# Altium footprint library PCB - CHOKE - TDK ACM ACM7060-301-2PL-TL01.PCBLIB: 1 footprints
Each footprint in its own frame and in the unit in brackets; x right, y up, seen from the top. Pads: shape width x height; smd on the part's side, far side on the other; paste and mask are expansions set on the pad; w line width, h text height; cw(c..) or ccw(c..) is an arc to the next point about the centre after c.
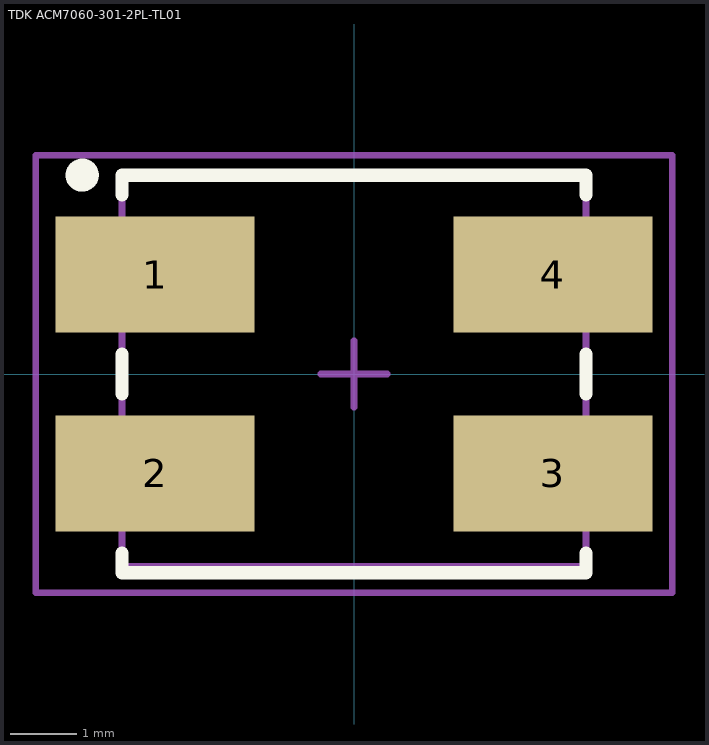
[diagram p0: the footprint, top view; thin cyan lines are the x and y axes]

## TDK ACM7060-301-2PL-TL01 [mm] "Chip Choke, Body 6.0x7.0mm, IPC Medium Density"
height 3.5
pads (4):
  rect 3x1.75 smd: 1(-3,1.5) 2(-3,-1.5) 3(3,-1.5) 4(3,1.5)
Top Overlay:
  circle w0.3: c-4.1,3 r0.1
  lines w0.2: -3.5,-2.7 -3.5,-3 3.5,-3 3.5,-2.7 ; -3.5,-0.3 -3.5,0.3 ; -3.5,2.7 -3.5,3 3.5,3 3.5,2.7 ; 3.5,-0.3 3.5,0.3
Mechanical 13:
  lines w0.1: -3.5,-2.9 -3.5,3 3.5,3 3.5,-2.9 -3.5,-2.9
Mechanical 15:
  lines w0.1: -0.5,0 0.5,0 ; 0,-0.5 0,0.5 ; -4.8,-3.3 4.8,-3.3 4.8,3.3 -4.8,3.3 -4.8,-3.3
3D body "TDK - ACM7060.step": height 3.32, standoff -0.03, extent -3.5,-3 3.5,3